# Altium footprint library Inductor_SMD.PcbLib: 259 footprints (part 6 of 17)
Each footprint in its own frame and in the unit in brackets; x right, y up, seen from the top. Pads: shape width x height; smd on the part's side, far side on the other; paste and mask are expansions set on the pad; w line width, h text height; cw(c..) or ccw(c..) is an arc to the next point about the centre after c.
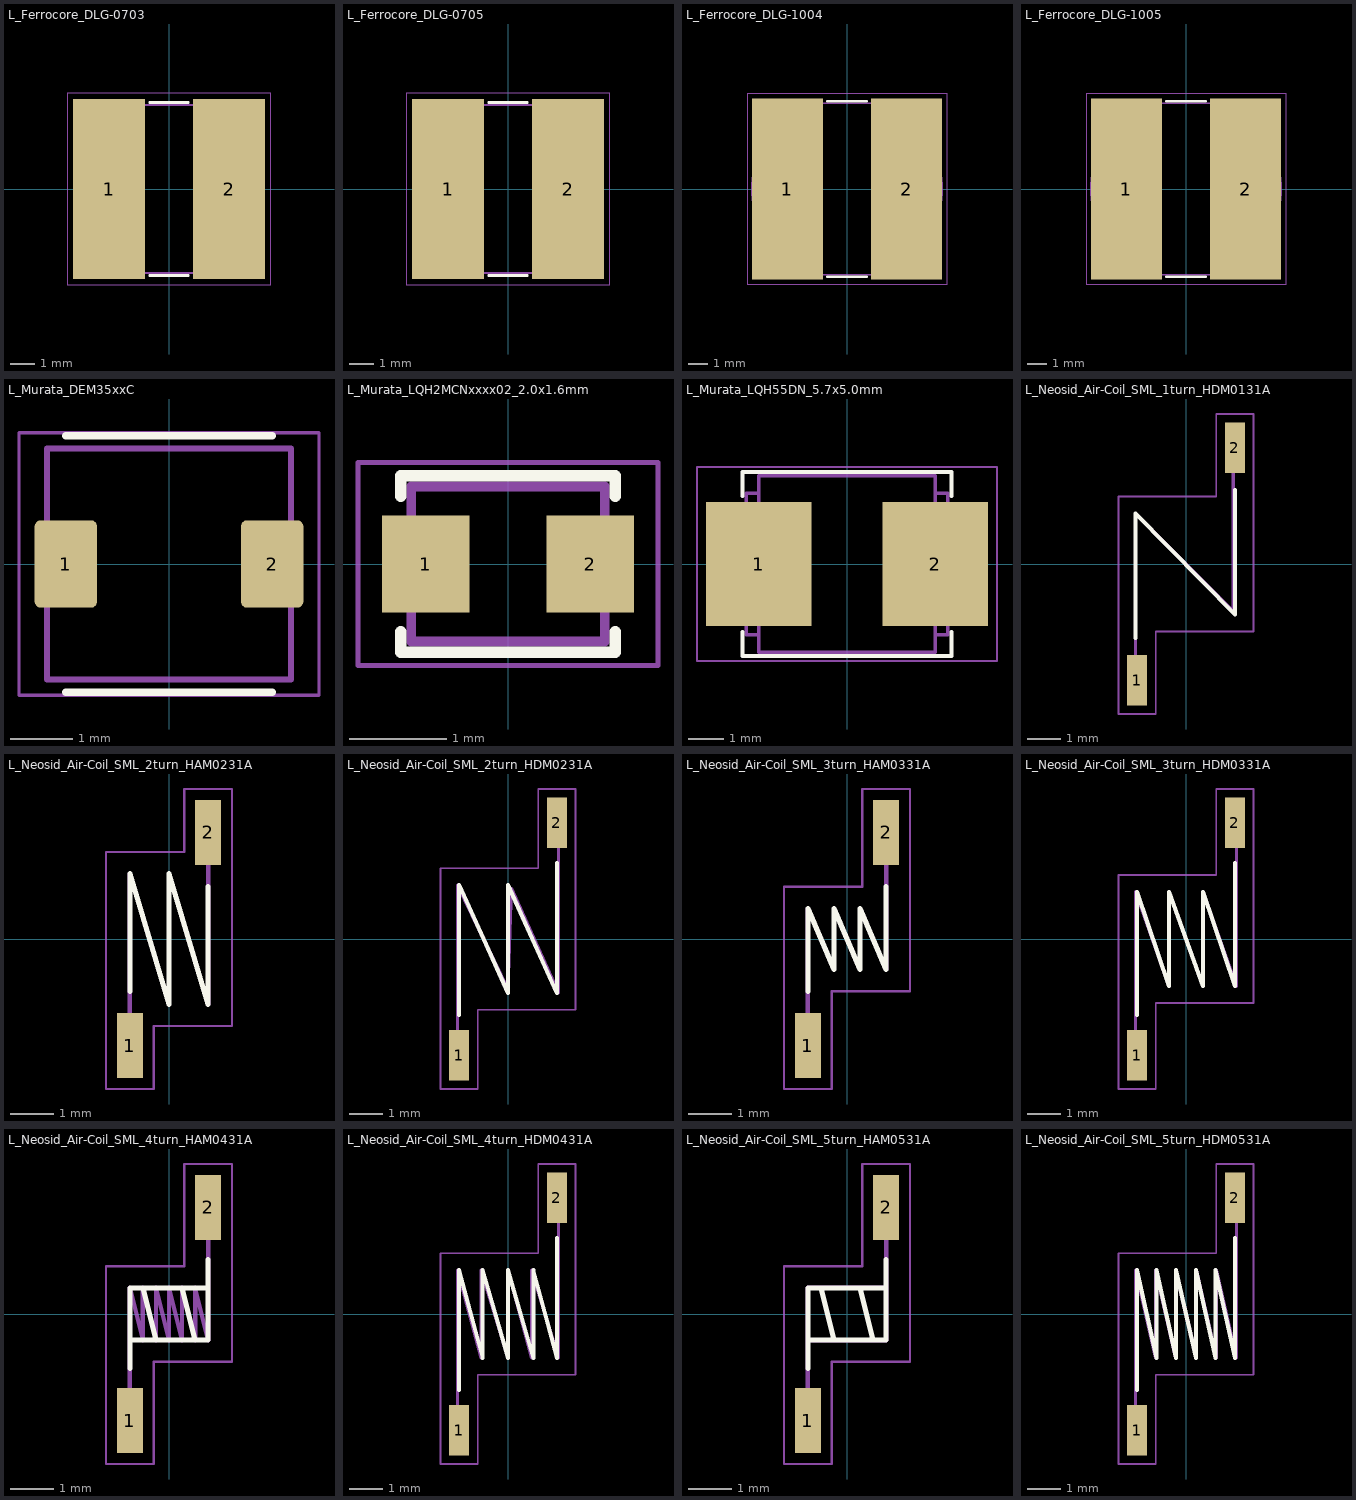
[diagram p5: the footprints below, top view; thin cyan lines are the x and y axes]

## L_Ferrocore_DLG-0703 [mm]
pads (2):
  rect 3x7.5 smd: 1(-2.5,0) 2(2.5,0)
F.SilkS:
  lines w0.12: -0.8,-3.61 0.8,-3.61 ; -0.8,3.61 0.8,3.61
F.CrtYd:
  lines w0.05: -4.25,-4 4.25,-4 4.25,4 -4.25,4 -4.25,-4
F.Fab:
  lines w0.1: -1,-3.5 1,-3.5 ccw(c0.338,0) 1,3.5 -1,3.5 ccw(c-0.338,0) -1,-3.5
  text "'.Designator'" at -4.047,-0.84 h1

## L_Ferrocore_DLG-0705 [mm]
pads (2):
  rect 3x7.5 smd: 1(-2.5,0) 2(2.5,0)
F.SilkS:
  lines w0.12: -0.8,-3.61 0.8,-3.61 ; -0.8,3.61 0.8,3.61
F.CrtYd:
  lines w0.05: -4.25,-4 4.25,-4 4.25,4 -4.25,4 -4.25,-4
F.Fab:
  lines w0.1: -1,-3.5 1,-3.5 ccw(c0.338,0) 1,3.5 -1,3.5 ccw(c-0.338,0) -1,-3.5
  text "'.Designator'" at -4.047,-0.84 h1

## L_Ferrocore_DLG-1004 [mm]
pads (2):
  rect 3.75x9.5 smd: 1(-3.125,0) 2(3.125,0)
F.SilkS:
  lines w0.12: -1.05,-4.61 1.05,-4.61 ; -1.05,4.61 1.05,4.61
F.CrtYd:
  lines w0.05: -5.25,-5 5.25,-5 5.25,5 -5.25,5 -5.25,-5
F.Fab:
  lines w0.1: -1.25,-4.5 1.25,-4.5 ccw(c0.425,0) 1.25,4.5 -1.25,4.5 ccw(c-0.425,0) -1.25,-4.5
  text "'.Designator'" at -4.047,-0.84 h1

## L_Ferrocore_DLG-1005 [mm]
pads (2):
  rect 3.75x9.5 smd: 1(-3.125,0) 2(3.125,0)
F.SilkS:
  lines w0.12: -1.05,-4.61 1.05,-4.61 ; -1.05,4.61 1.05,4.61
F.CrtYd:
  lines w0.05: -5.25,-5 -5.25,5 5.25,5 5.25,-5 -5.25,-5
F.Fab:
  lines w0.1: -1.25,-4.5 1.25,-4.5 ccw(c0.425,0) 1.25,4.5 -1.25,4.5 ccw(c-0.425,0) -1.25,-4.5
  text "'.Designator'" at -4.047,-0.84 h1

## L_Murata_DEM35xxC [mm]
pads (2):
  rrect20% 1x1.4 smd: 1(-1.65,0) 2(1.65,0)
F.SilkS:
  lines w0.12: -1.65,-2.05 1.65,-2.05 ; -1.65,2.05 1.65,2.05
F.CrtYd:
  lines w0.05: -2.4,-2.1 2.4,-2.1 2.4,2.1 -2.4,2.1 -2.4,-2.1
F.Fab:
  lines w0.1: -1.95,-1.85 -1.95,1.85 1.95,1.85 1.95,-1.85 -1.95,-1.85
  text "'.Designator'" at -2.828,-0.583 h0.7

## L_Murata_LQH2MCNxxxx02_2.0x1.6mm [mm]
pads (2):
  rect 0.9x1 smd: 1(-0.85,0) 2(0.85,0)
F.SilkS:
  lines w0.12: -1.11,-0.7 -1.11,-0.91 1.11,-0.91 1.11,-0.7 ; -1.11,0.7 -1.11,0.91 1.11,0.91 1.11,0.7
F.CrtYd:
  lines w0.05: -1.55,-1.05 -1.55,1.05 1.55,1.05 1.55,-1.05 -1.55,-1.05
F.Fab:
  lines w0.1: -1,-0.8 1,-0.8 1,0.8 -1,0.8 -1,-0.8
  text "'.Designator'" at -1.619,-0.336 h0.4

## L_Murata_LQH55DN_5.7x5.0mm [mm]
pads (2):
  rect 3x3.5 smd: 1(-2.5,0) 2(2.5,0)
F.SilkS:
  lines w0.12: -2.96,-1.93 -2.96,-2.61 2.96,-2.61 2.96,-1.93 ; -2.96,1.93 -2.96,2.61 2.96,2.61 2.96,1.93
F.CrtYd:
  lines w0.05: -4.25,-2.75 4.25,-2.75 4.25,2.75 -4.25,2.75 -4.25,-2.75
F.Fab:
  lines w0.1: -2.5,-2 -2.85,-2 -2.85,2 -2.5,2 ; 2.5,-2 2.85,-2 2.85,2 2.5,2 ; -2.5,-2.5 2.5,-2.5 2.5,2.5 -2.5,2.5 -2.5,-2.5
  text "'.Designator'" at -4.047,-0.84 h1

## L_Neosid_Air-Coil_SML_1turn_HDM0131A [mm]
pads (2):
  rect 0.6x1.5 smd: 1(-1.45,-3.45) 2(1.45,3.45)
F.SilkS:
  lines w0.12: -1.5,-2.2 -1.5,1.5 1.45,-1.5 1.45,2.2
F.CrtYd:
  lines w0.05: -2,-4.45 -2,2 0.9,2 0.9,4.45 2,4.45 2,-2 -0.9,-2 -0.9,-4.45 -2,-4.45
F.Fab:
  lines w0.1: -1.5,-3.4 -1.5,1.5 1.4,-1.4 1.4,3.5
  text "'.Designator'" at -2.883,-0.538 h0.7

## L_Neosid_Air-Coil_SML_2turn_HAM0231A [mm]
pads (2):
  rect 0.6x1.5 smd: 1(-0.9,-2.45) 2(0.9,2.45)
F.SilkS:
  lines w0.12: -0.9,-1.2 -0.9,1.5 0,-1.5 0,1.5 0.9,-1.5 0.9,1.2
F.CrtYd:
  lines w0.05: -1.45,-3.45 -0.35,-3.45 -0.35,-2 1.45,-2 1.45,3.45 0.35,3.45 0.35,2 -1.45,2 -1.45,-3.45
F.Fab:
  lines w0.1: -0.9,-2.5 -0.9,1.5 0,-1.5 0,1.5 0.9,-1.5 0.9,2.5
  text "'.Designator'" at -2.023,-0.42 h0.5

## L_Neosid_Air-Coil_SML_2turn_HDM0231A [mm]
pads (2):
  rect 0.6x1.5 smd: 1(-1.45,-3.45) 2(1.45,3.45)
F.SilkS:
  lines w0.12: -1.45,-2.25 -1.45,1.6 0,-1.6 0,1.6 1.45,-1.6 1.45,2.25
F.CrtYd:
  lines w0.05: -2,-4.45 -2,2.1 0.9,2.1 0.9,4.45 2,4.45 2,-2.1 -0.9,-2.1 -0.9,-4.45 -2,-4.45
F.Fab:
  lines w0.1: -1.5,-3.5 -1.5,1.6 0,-1.5 0.1,1.5 1.5,-1.6 1.5,3.6
  text "'.Designator'" at -2.833,-0.538 h0.7

## L_Neosid_Air-Coil_SML_3turn_HAM0331A [mm]
pads (2):
  rect 0.6x1.5 smd: 1(-0.9,-2.45) 2(0.9,2.45)
F.SilkS:
  lines w0.12: -0.9,-1.2 -0.9,0.7 -0.3,-0.7 -0.3,0.7 0.3,-0.7 0.3,0.7 0.9,-0.7 0.9,1.2
F.CrtYd:
  lines w0.05: -1.45,-3.45 -0.35,-3.45 -0.35,-1.2 1.45,-1.2 1.45,3.45 0.35,3.45 0.35,1.2 -1.45,1.2 -1.45,-3.45
F.Fab:
  lines w0.1: -0.9,-2.6 -0.9,0.7 -0.3,-0.7 -0.3,0.7 0.3,-0.7 0.3,0.7 0.9,-0.7 0.9,2.6
  text "'.Designator'" at -2.023,-0.42 h0.5

## L_Neosid_Air-Coil_SML_3turn_HDM0331A [mm]
pads (2):
  rect 0.6x1.5 smd: 1(-1.45,-3.45) 2(1.45,3.45)
F.SilkS:
  lines w0.12: -1.45,-2.25 -1.45,1.4 -0.5,-1.4 -0.5,1.4 0.5,-1.4 0.5,1.4 1.45,-1.4 1.45,2.25
F.CrtYd:
  lines w0.05: -2,-4.45 -0.9,-4.45 -0.9,-1.9 2,-1.9 2,4.45 0.9,4.45 0.9,1.9 -2,1.9 -2,-4.45
F.Fab:
  lines w0.1: -1.5,-3.5 -1.5,1.4 -0.5,-1.4 -0.5,1.4 0.5,-1.4 0.5,1.4 1.5,-1.4 1.5,3.5
  text "'.Designator'" at -2.833,-0.588 h0.7

## L_Neosid_Air-Coil_SML_4turn_HAM0431A [mm]
pads (2):
  rect 0.6x1.5 smd: 1(-0.9,-2.45) 2(0.9,2.45)
F.SilkS:
  lines w0.12: -0.9,-1.25 -0.9,0.6 0.9,0.6 ; -0.9,-0.6 0.9,-0.6 0.9,1.25 ; -0.6,0.6 -0.3,-0.6 ; 0.3,0.6 0.6,-0.6
F.CrtYd:
  lines w0.05: -1.45,-3.45 -1.45,1.1 0.35,1.1 0.35,3.45 1.45,3.45 1.45,-1.1 -0.35,-1.1 -0.35,-3.45 -1.45,-3.45
F.Fab:
  lines w0.1: -0.9,-2.5 -0.9,0.6 -0.6,-0.6 -0.6,0.6 -0.3,-0.6 -0.3,0.6 0,-0.6 0,0.6 0.3,-0.6 0.3,0.6 0.6,-0.6 0.6,0.6 0.9,-0.6 0.9,2.6
  text "'.Designator'" at -2.023,-0.37 h0.5

## L_Neosid_Air-Coil_SML_4turn_HDM0431A [mm]
pads (2):
  rect 0.6x1.5 smd: 1(-1.45,-3.45) 2(1.45,3.45)
F.SilkS:
  lines w0.12: -1.45,-2.25 -1.45,1.3 -0.75,-1.3 -0.75,1.3 0,-1.3 0,1.3 0.75,-1.3 0.75,1.3 1.45,-1.3 1.45,2.25
F.CrtYd:
  lines w0.05: -2,-4.45 -2,1.8 0.9,1.8 0.9,4.45 2,4.45 2,-1.8 -0.9,-1.8 -0.9,-4.45 -2,-4.45
F.Fab:
  lines w0.1: -1.5,-3.5 -1.5,1.3 -0.8,-1.3 -0.8,1.3 0,-1.3 0,1.3 0.7,-1.3 0.7,1.3 1.5,-1.3 1.5,3.5
  text "'.Designator'" at -2.833,-0.588 h0.7

## L_Neosid_Air-Coil_SML_5turn_HAM0531A [mm]
pads (2):
  rect 0.6x1.5 smd: 1(-0.9,-2.45) 2(0.9,2.45)
F.SilkS:
  lines w0.12: -0.9,-1.25 -0.9,0.6 0.9,0.6 ; -0.9,-0.6 0.9,-0.6 0.9,1.25 ; -0.6,0.6 -0.3,-0.6 ; 0.3,0.6 0.6,-0.6
F.CrtYd:
  lines w0.05: -1.45,-3.45 -0.35,-3.45 -0.35,-1.1 1.45,-1.1 1.45,3.45 0.35,3.45 0.35,1.1 -1.45,1.1 -1.45,-3.45
F.Fab:
  lines w0.1: -0.9,-2.5 -0.9,0.6 0.9,0.6 ; -0.9,-0.6 0.9,-0.6 0.9,2.5
  text "'.Designator'" at -2.023,-0.42 h0.5

## L_Neosid_Air-Coil_SML_5turn_HDM0531A [mm]
pads (2):
  rect 0.6x1.5 smd: 1(-1.45,-3.45) 2(1.45,3.45)
F.SilkS:
  lines w0.12: -1.45,-2.25 -1.45,1.3 -0.87,-1.3 -0.87,1.3 -0.29,-1.3 -0.29,1.3 0.29,-1.3 0.29,1.3 0.87,-1.3 0.87,1.3 1.45,-1.3 1.45,2.25
F.CrtYd:
  lines w0.05: -2,-4.45 -2,1.8 0.9,1.8 0.9,4.45 2,4.45 2,-1.8 -0.9,-1.8 -0.9,-4.45 -2,-4.45
F.Fab:
  lines w0.1: -1.5,-3.6 -1.5,1.3 -0.9,-1.3 -0.9,1.3 -0.3,-1.3 -0.3,1.3 0.3,-1.3 0.3,1.3 0.9,-1.3 0.9,1.3 1.5,-1.3 1.5,3.6
  text "'.Designator'" at -2.833,-0.588 h0.7